# EAGLE library part SENSEAIR-S8-DIP (library LUJAN)
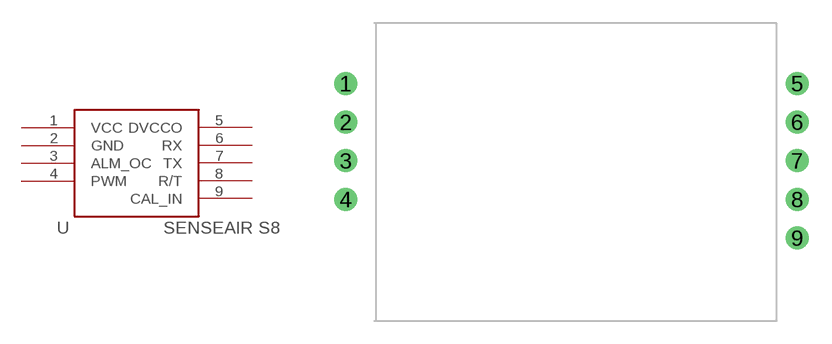
[diagram p0: symbol with the pads of SENSEAIR-S8-DIP; footprint SENSEAIR-S8-DIP]

Designator prefix -

## SENSEAIR-S8-DIP  [SENSEAIR-S8-DIP]
1  VCC
2  GND
3  ALM_OC
4  PWM
5  DVCCO
6  RX
7  TX
8  R/T
9  CAL_IN

## Footprint SENSEAIR-S8-DIP (pad centres in mm)
drill 1: 1 -18.055,5.185; 2 -18.055,2.645; 3 -18.055,0.105; 4 -18.055,-2.435; 5 11.585,5.185; 6 11.585,2.645; 7 11.585,0.105; 8 11.585,-2.435; 9 11.585,-4.975